# Altium schematic symbol library SCH - MCU - ATSAM - MICROCHIP SAMC21J15A-AU TQFP64.SchLib: 1 symbol
Pins are listed as number, name and electrical type; pins without a type are passive.

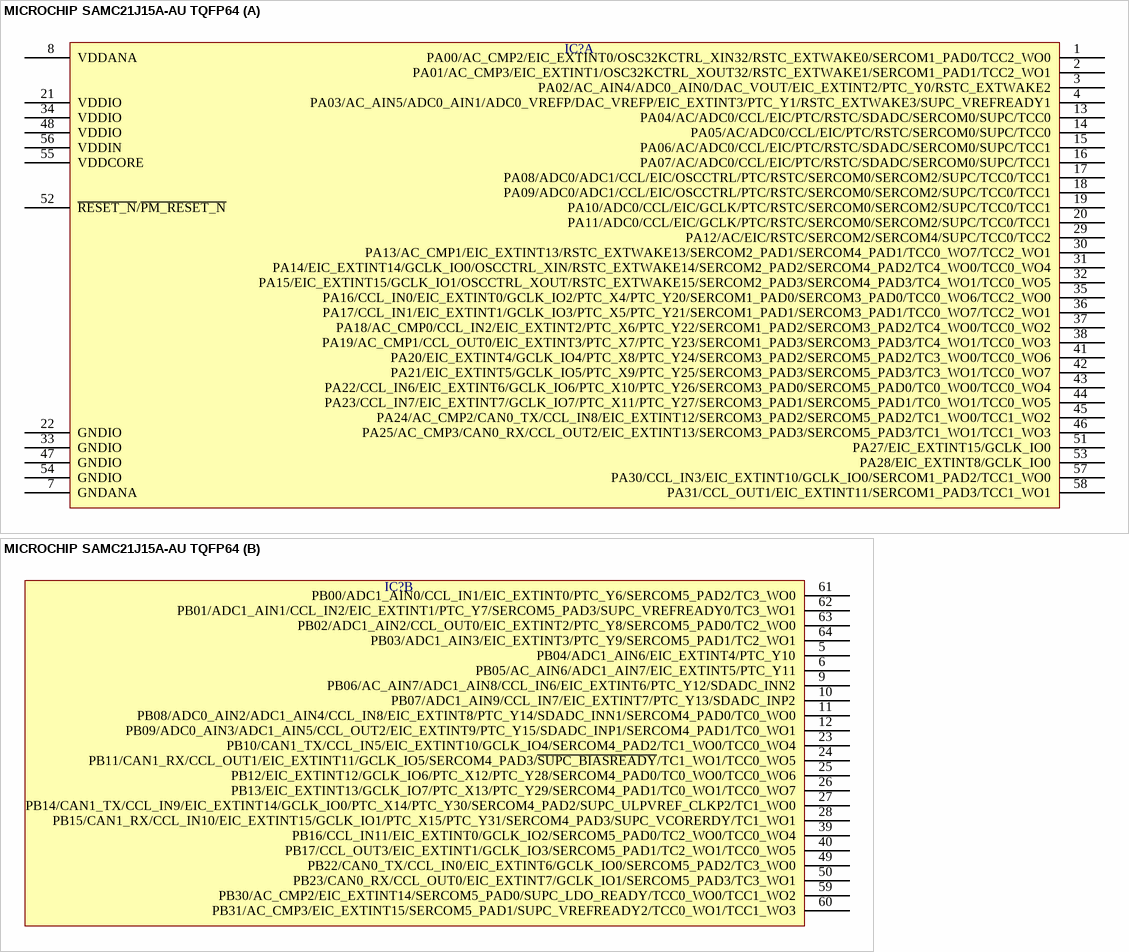
[diagram p0: symbol MICROCHIP SAMC21J15A-AU TQFP64]

## MICROCHIP SAMC21J15A-AU TQFP64
designator IC?  (value not drawn)
part A pins: 1 PA00/AC_CMP2/EIC_EXTINT0/OSC32KCTRL_XIN32/RSTC_EXTWAKE0/SERCOM1_PAD0/TCC2_WO0, 2 PA01/AC_CMP3/EIC_EXTINT1/OSC32KCTRL_XOUT32/RSTC_EXTWAKE1/SERCOM1_PAD1/TCC2_WO1, 3 PA02/AC_AIN4/ADC0_AIN0/DAC_VOUT/EIC_EXTINT2/PTC_Y0/RSTC_EXTWAKE2, 4 PA03/AC_AIN5/ADC0_AIN1/ADC0_VREFP/DAC_VREFP/EIC_EXTINT3/PTC_Y1/RSTC_EXTWAKE3/SUPC_VREFREADY1, 7 GNDANA, 8 VDDANA, 13 PA04/AC/ADC0/CCL/EIC/PTC/RSTC/SDADC/SERCOM0/SUPC/TCC0, 14 PA05/AC/ADC0/CCL/EIC/PTC/RSTC/SERCOM0/SUPC/TCC0, 15 PA06/AC/ADC0/CCL/EIC/PTC/RSTC/SDADC/SERCOM0/SUPC/TCC1, 16 PA07/AC/ADC0/CCL/EIC/PTC/RSTC/SDADC/SERCOM0/SUPC/TCC1, 17 PA08/ADC0/ADC1/CCL/EIC/OSCCTRL/PTC/RSTC/SERCOM0/SERCOM2/SUPC/TCC0/TCC1, 18 PA09/ADC0/ADC1/CCL/EIC/OSCCTRL/PTC/RSTC/SERCOM0/SERCOM2/SUPC/TCC0/TCC1, 19 PA10/ADC0/CCL/EIC/GCLK/PTC/RSTC/SERCOM0/SERCOM2/SUPC/TCC0/TCC1, 20 PA11/ADC0/CCL/EIC/GCLK/PTC/RSTC/SERCOM0/SERCOM2/SUPC/TCC0/TCC1, 21 VDDIO, 22 GNDIO, 29 PA12/AC/EIC/RSTC/SERCOM2/SERCOM4/SUPC/TCC0/TCC2, 30 PA13/AC_CMP1/EIC_EXTINT13/RSTC_EXTWAKE13/SERCOM2_PAD1/SERCOM4_PAD1/TCC0_WO7/TCC2_WO1, 31 PA14/EIC_EXTINT14/GCLK_IO0/OSCCTRL_XIN/RSTC_EXTWAKE14/SERCOM2_PAD2/SERCOM4_PAD2/TC4_WO0/TCC0_WO4, 32 PA15/EIC_EXTINT15/GCLK_IO1/OSCCTRL_XOUT/RSTC_EXTWAKE15/SERCOM2_PAD3/SERCOM4_PAD3/TC4_WO1/TCC0_WO5, 33 GNDIO, 34 VDDIO, 35 PA16/CCL_IN0/EIC_EXTINT0/GCLK_IO2/PTC_X4/PTC_Y20/SERCOM1_PAD0/SERCOM3_PAD0/TCC0_WO6/TCC2_WO0, 36 PA17/CCL_IN1/EIC_EXTINT1/GCLK_IO3/PTC_X5/PTC_Y21/SERCOM1_PAD1/SERCOM3_PAD1/TCC0_WO7/TCC2_WO1, 37 PA18/AC_CMP0/CCL_IN2/EIC_EXTINT2/PTC_X6/PTC_Y22/SERCOM1_PAD2/SERCOM3_PAD2/TC4_WO0/TCC0_WO2, 38 PA19/AC_CMP1/CCL_OUT0/EIC_EXTINT3/PTC_X7/PTC_Y23/SERCOM1_PAD3/SERCOM3_PAD3/TC4_WO1/TCC0_WO3, 41 PA20/EIC_EXTINT4/GCLK_IO4/PTC_X8/PTC_Y24/SERCOM3_PAD2/SERCOM5_PAD2/TC3_WO0/TCC0_WO6, 42 PA21/EIC_EXTINT5/GCLK_IO5/PTC_X9/PTC_Y25/SERCOM3_PAD3/SERCOM5_PAD3/TC3_WO1/TCC0_WO7, 43 PA22/CCL_IN6/EIC_EXTINT6/GCLK_IO6/PTC_X10/PTC_Y26/SERCOM3_PAD0/SERCOM5_PAD0/TC0_WO0/TCC0_WO4, 44 PA23/CCL_IN7/EIC_EXTINT7/GCLK_IO7/PTC_X11/PTC_Y27/SERCOM3_PAD1/SERCOM5_PAD1/TC0_WO1/TCC0_WO5, 45 PA24/AC_CMP2/CAN0_TX/CCL_IN8/EIC_EXTINT12/SERCOM3_PAD2/SERCOM5_PAD2/TC1_WO0/TCC1_WO2, 46 PA25/AC_CMP3/CAN0_RX/CCL_OUT2/EIC_EXTINT13/SERCOM3_PAD3/SERCOM5_PAD3/TC1_WO1/TCC1_WO3, 47 GNDIO, 48 VDDIO, 51 PA27/EIC_EXTINT15/GCLK_IO0, 52 ~{RESET_N}/~{PM_RESET_N}, 53 PA28/EIC_EXTINT8/GCLK_IO0, 54 GNDIO, 55 VDDCORE, 56 VDDIN, 57 PA30/CCL_IN3/EIC_EXTINT10/GCLK_IO0/SERCOM1_PAD2/TCC1_WO0, 58 PA31/CCL_OUT1/EIC_EXTINT11/SERCOM1_PAD3/TCC1_WO1
part B pins: 5 PB04/ADC1_AIN6/EIC_EXTINT4/PTC_Y10, 6 PB05/AC_AIN6/ADC1_AIN7/EIC_EXTINT5/PTC_Y11, 9 PB06/AC_AIN7/ADC1_AIN8/CCL_IN6/EIC_EXTINT6/PTC_Y12/SDADC_INN2, 10 PB07/ADC1_AIN9/CCL_IN7/EIC_EXTINT7/PTC_Y13/SDADC_INP2, 11 PB08/ADC0_AIN2/ADC1_AIN4/CCL_IN8/EIC_EXTINT8/PTC_Y14/SDADC_INN1/SERCOM4_PAD0/TC0_WO0, 12 PB09/ADC0_AIN3/ADC1_AIN5/CCL_OUT2/EIC_EXTINT9/PTC_Y15/SDADC_INP1/SERCOM4_PAD1/TC0_WO1, 23 PB10/CAN1_TX/CCL_IN5/EIC_EXTINT10/GCLK_IO4/SERCOM4_PAD2/TC1_WO0/TCC0_WO4, 24 PB11/CAN1_RX/CCL_OUT1/EIC_EXTINT11/GCLK_IO5/SERCOM4_PAD3/~{SUPC_BIASREADY}/TC1_WO1/TCC0_WO5, 25 PB12/EIC_EXTINT12/GCLK_IO6/PTC_X12/PTC_Y28/SERCOM4_PAD0/TC0_WO0/TCC0_WO6, 26 PB13/EIC_EXTINT13/GCLK_IO7/PTC_X13/PTC_Y29/SERCOM4_PAD1/TC0_WO1/TCC0_WO7, 27 PB14/CAN1_TX/CCL_IN9/EIC_EXTINT14/GCLK_IO0/PTC_X14/PTC_Y30/SERCOM4_PAD2/SUPC_ULPVREF_CLKP2/TC1_WO0, 28 PB15/CAN1_RX/CCL_IN10/EIC_EXTINT15/GCLK_IO1/PTC_X15/PTC_Y31/SERCOM4_PAD3/SUPC_VCORERDY/TC1_WO1, 39 PB16/CCL_IN11/EIC_EXTINT0/GCLK_IO2/SERCOM5_PAD0/TC2_WO0/TCC0_WO4, 40 PB17/CCL_OUT3/EIC_EXTINT1/GCLK_IO3/SERCOM5_PAD1/TC2_WO1/TCC0_WO5, 49 PB22/CAN0_TX/CCL_IN0/EIC_EXTINT6/GCLK_IO0/SERCOM5_PAD2/TC3_WO0, 50 PB23/CAN0_RX/CCL_OUT0/EIC_EXTINT7/GCLK_IO1/SERCOM5_PAD3/TC3_WO1, 59 PB30/AC_CMP2/EIC_EXTINT14/SERCOM5_PAD0/SUPC_LDO_READY/TCC0_WO0/TCC1_WO2, 60 PB31/AC_CMP3/EIC_EXTINT15/SERCOM5_PAD1/SUPC_VREFREADY2/TCC0_WO1/TCC1_WO3, 61 PB00/ADC1_AIN0/CCL_IN1/EIC_EXTINT0/PTC_Y6/SERCOM5_PAD2/TC3_WO0, 62 PB01/ADC1_AIN1/CCL_IN2/EIC_EXTINT1/PTC_Y7/SERCOM5_PAD3/SUPC_VREFREADY0/TC3_WO1, 63 PB02/ADC1_AIN2/CCL_OUT0/EIC_EXTINT2/PTC_Y8/SERCOM5_PAD0/TC2_WO0, 64 PB03/ADC1_AIN3/EIC_EXTINT3/PTC_Y9/SERCOM5_PAD1/TC2_WO1